# Altium footprint library DIODES.PcbLib: 3 footprints
Each footprint in its own frame and in the unit in brackets; x right, y up, seen from the top. Pads: shape width x height; smd on the part's side, far side on the other; paste and mask are expansions set on the pad; w line width, h text height; cw(c..) or ccw(c..) is an arc to the next point about the centre after c.
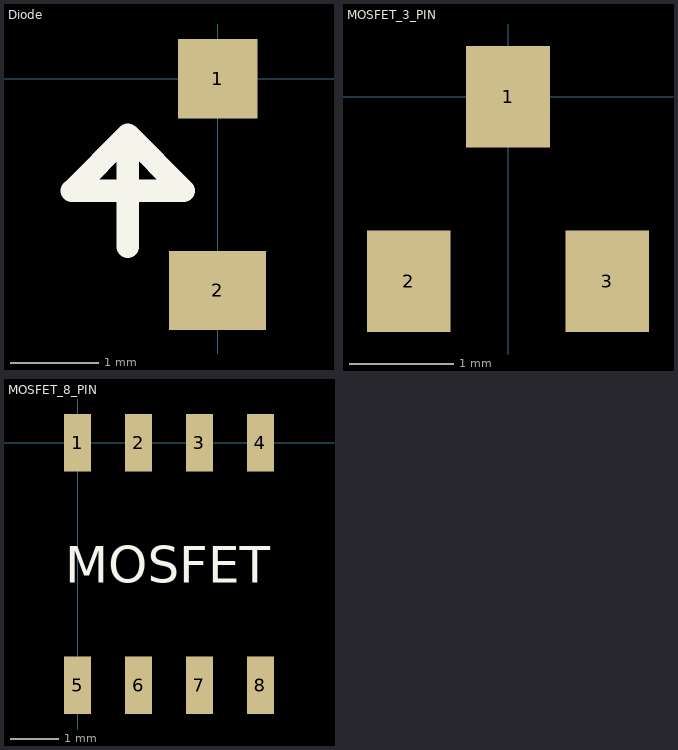
[diagram p0: the footprints below, top view; thin cyan lines are the x and y axes]

## Diode [mm]
pads (2):
  rect 0.9x0.9 smd: 1(0,0)
  rect 1.1x0.9 smd: 2(0,-2.4)
Top Overlay:
  lines w0.254: -1.016,-1.905 -1.016,-0.635 ; -1.016,-0.635 -1.651,-1.27 -0.381,-1.27 -1.016,-0.635

## MOSFET_3_PIN [mm]
pads (3):
  rect 0.802x0.972 smd: 1(0,0) 2(-0.95,-1.77) 3(0.95,-1.77)

## MOSFET_8_PIN [mil]
pads (8):
  rect 22x47 smd: 1(0,0) 2(50,0) 3(100,0) 4(150,0) 5(0,-199) 6(50,-199) 7(100,-199) 8(150,-199)
Top Overlay:
  text "MOSFET" at -10,-115 h30